# EAGLE library part TP4056 (library TP4056)
Check availability <https://pricing.snapeda.com/parts/TP4056/NanJing%20Top%20Power%20ASIC%20Corp./view-part?ref=eda>
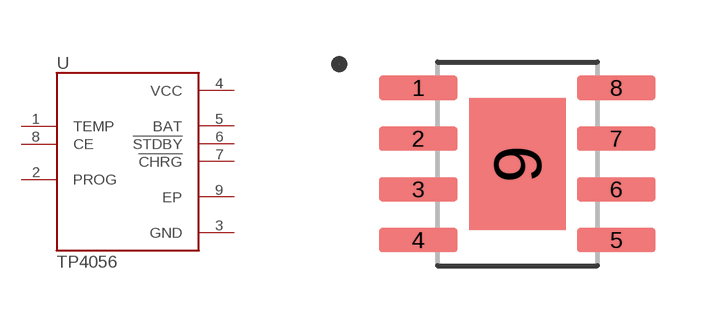
[diagram p0: symbol with the pads of SOP127P600X175-9N; footprint SOP127P600X175-9N]

Designator prefix U

## TP4056  [SOP127P600X175-9N]
1  TEMP  in
2  PROG
3  GND  pwr
4  VCC  pwr
5  BAT  out
6  !STDBY  out
7  !CHRG  out
8  CE  in
9  EP  pas

## Footprint SOP127P600X175-9N (pad centres in mm)
smd 1.97 x 0.6: 1 -2.475,1.905; 2 -2.475,0.635; 3 -2.475,-0.635; 4 -2.475,-1.905; 5 2.475,-1.905; 6 2.475,-0.635; 7 2.475,0.635; 8 2.475,1.905
smd 2.413 x 3.302: 9 0,0